# EAGLE library part MODERNDEVICE_1X6_HEADER (library Scratch_RBBB)
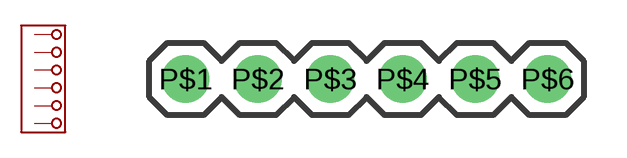
[diagram p0: symbol with the pads of MODERNDEVICE_1X6_HEADER; footprint MODERNDEVICE_1X6_HEADER]

Designator prefix -

## MODERNDEVICE_1X6_HEADER  [MODERNDEVICE_1X6_HEADER]
P$1  P$1
P$2  P$2
P$3  P$3
P$4  P$4
P$5  P$5
P$6  P$6

## Footprint MODERNDEVICE_1X6_HEADER (pad centres in mm)
drill 0.8 pad 1.676: P$1 -6.35,0; P$2 -3.81,0; P$3 -1.27,0; P$4 1.27,0; P$5 3.81,0; P$6 6.35,0